# EAGLE library part TC2030-IDC (library angrypig7-Connectors-Programming)
Tag-Connect In Circuit Programming & Debug Cable 6 Pin Link <https://www.tag-connect.com/product/tc2030-idc-10-6-pin-tag-connect-plug-of-nails-spring-pin-cable-with-ribbon-connector-10-version>
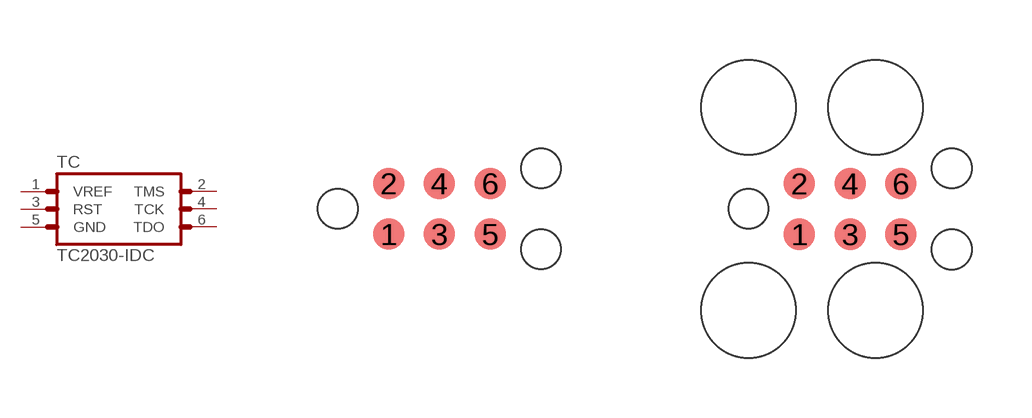
[diagram p1: symbol with the pads of TC2030-IDC-NL; footprints TC2030-IDC-NL, TC2030-IDC]

Designator prefix TC

## TC2030-IDC-NL  [TC2030-IDC-NL]
1  VREF  pas
2  TMS  pas
3  RST  pas
4  TCK  pas
5  GND  pas
6  TDO  pas

## TC2030-IDC  [TC2030-IDC]
Pads as for TC2030-IDC-NL

## TC2030-IDC-DOUBLE  [TC2030-IDC-DOUBLE]
Pads as for TC2030-IDC-NL

## Footprint TC2030-IDC-NL (pad centres in mm)
smd 0.787 x 0.787: 1 -1.27,-0.635; 2 -1.27,0.635; 3 0,-0.635; 4 0,0.635; 5 1.27,-0.635; 6 1.27,0.635
hole 0.991 at -2.54,0
hole 0.991 at 2.54,1.016
hole 0.991 at 2.54,-1.016

## Footprint TC2030-IDC (pad centres in mm)
smd 0.787 x 0.787: 1 -1.27,-0.635; 2 -1.27,0.635; 3 0,-0.635; 4 0,0.635; 5 1.27,-0.635; 6 1.27,0.635
hole 0.991 at -2.54,0
hole 0.991 at 2.54,1.016
hole 0.991 at 2.54,-1.016
hole 2.375 at 0.635,2.54
hole 2.375 at -2.54,2.54
hole 2.375 at 0.635,-2.54
hole 2.375 at -2.54,-2.54

## Footprint TC2030-IDC-DOUBLE (pad centres in mm)
drill 0.2 pad 0.85: 1 -1.27,-0.635; 2 -1.27,0.635; 3 0,-0.635; 4 0,0.635; 6 1.27,0.635
drill 0.2 pad 0.78: 5 1.27,-0.635
hole 0.991 at -2.54,0
hole 0.991 at 2.54,1.016
hole 0.991 at 2.54,-1.016
hole 2.375 at 0.635,2.54
hole 2.375 at -2.54,2.54
hole 2.375 at 0.635,-2.54
hole 2.375 at -2.54,-2.54